# EAGLE library part USB-WIFI-MODULE (library usb-wifi-module)
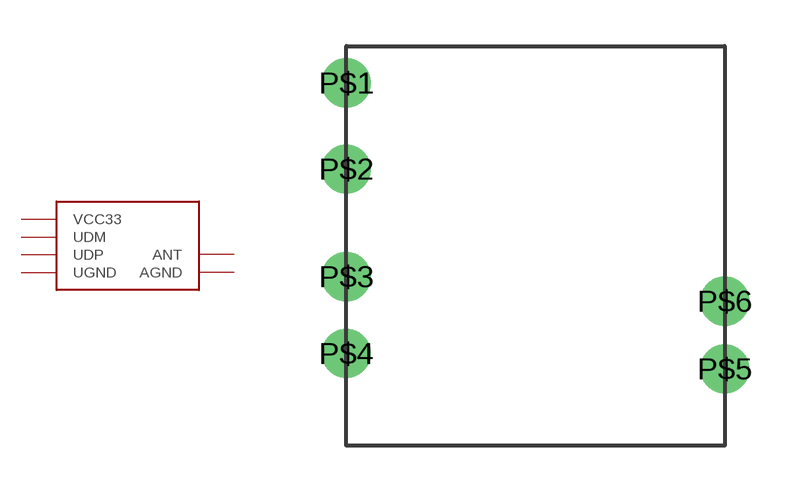
[diagram p0: symbol with the pads of USB-WIFI-MODULE; footprint USB-WIFI-MODULE]

Designator prefix -

## USB-WIFI-MODULE  [USB-WIFI-MODULE]
P$1  VCC33
P$2  UDM
P$3  UDP
P$4  UGND
P$5  AGND
P$6  ANT

## Footprint USB-WIFI-MODULE (pad centres in mm)
drill 0.1 pad 1.6: P$1 -6.15,5.3; P$2 -6.15,2.5; P$3 -6.15,-1; P$4 -6.15,-3.5; P$5 6.15,-4; P$6 6.15,-1.8